# EAGLE library part CD74HC238 (library mylib (Copie en conflit de phoenix 2014-09-20))
M74HC238 - CMOS 3 TO 8 LINE DECODER
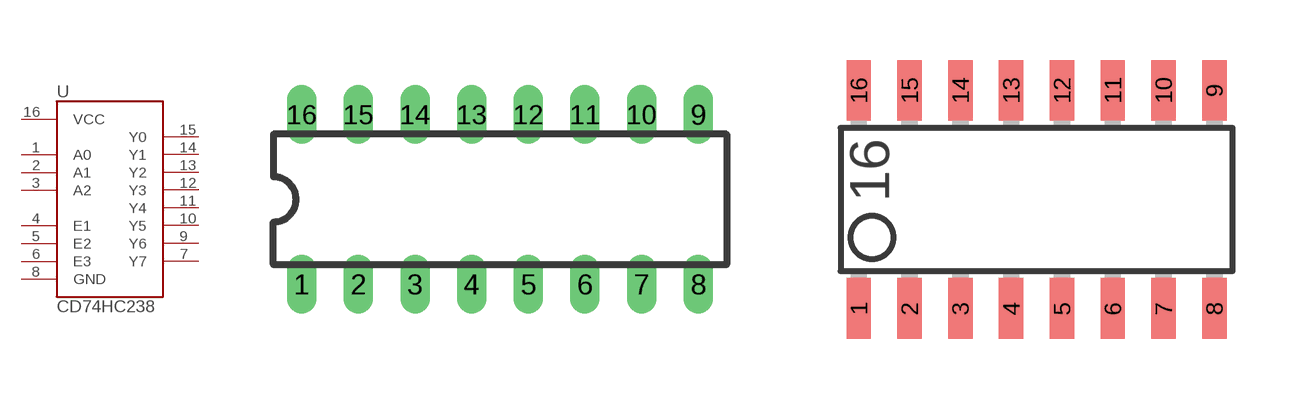
[diagram p1: symbol with the pads of DIL16; footprints DIL16, SO-16]

Designator prefix -

## CD74HC238E  [DIL16]
1  A0
2  A1
3  A2
4  E1
5  E2
6  E3
7  Y7
8  GND
9  Y6
10  Y5
11  Y4
12  Y3
13  Y2
14  Y1
15  Y0
16  VCC

## CD74HC238M  [SO-16]
Pads as for DIL16

## Footprint DIL16 (pad centres in mm)
Dual In Line Package
drill 0.813 long: 1 -8.89,-3.81; 2 -6.35,-3.81; 3 -3.81,-3.81; 4 -1.27,-3.81; 5 1.27,-3.81; 6 3.81,-3.81; 7 6.35,-3.81; 8 8.89,-3.81; 9 8.89,3.81; 10 6.35,3.81; 11 3.81,3.81; 12 1.27,3.81; 13 -1.27,3.81; 14 -3.81,3.81; 15 -6.35,3.81; 16 -8.89,3.81

## Footprint SO-16 (pad centres in mm)
Small Outline Integrated Circuit
smd 0.61 x 1.524: 1 -4.445,-2.794; 2 -3.175,-2.794; 3 -1.905,-2.794; 4 -0.635,-2.794; 5 0.635,-2.794; 6 1.905,-2.794; 7 3.175,-2.794; 8 4.445,-2.794; 9 4.445,2.667; 10 3.175,2.667; 11 1.905,2.667; 12 0.635,2.667; 13 -0.635,2.667; 14 -1.905,2.667; 15 -3.175,2.667; 16 -4.445,2.667